# EAGLE library part IS62WVS2568GBLL-45NLI (library SummerCart64)
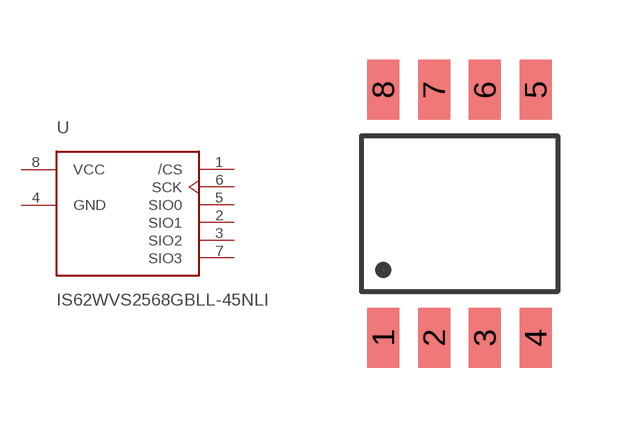
[diagram p7: symbol with the pads of SO8_150MIL; footprint SO8_150MIL]

Designator prefix U

## IS62WVS2568GBLL-45NLI  [SO8_150MIL]
1  /CS  in
2  SIO1
3  SIO2
4  GND  pwr
5  SIO0
6  SCK  in
7  SIO3
8  VCC  pwr

## Footprint SO8_150MIL (pad centres in mm)
smd 0.8 x 1.5: 1 -1.905,-3.1; 2 -0.635,-3.1; 3 0.635,-3.1; 4 1.905,-3.1; 5 1.905,3.1; 6 0.635,3.1; 7 -0.635,3.1; 8 -1.905,3.1